# Altium schematic symbol library PMIC - LED Drivers.SchLib: 1 symbol
Pins are listed as number, name and electrical type; pins without a type are passive.

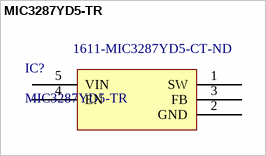
[diagram p0: symbol MIC3287YD5-TR]

## MIC3287YD5-TR
designator IC?  Supplier Part Number 1: 1611-MIC3287YD5-CT-ND
IC LED DRIVER RGLTR DIM TSOT23-5; Supplier 1: Digi-Key
footprint SOT95P245X145-5N (SOT23, 5-Leads, Body 2,90x2,45mm, Pitch 0,95mm, IPC Medium Density)
pins: 1 SW, 2 GND, 3 FB, 4 EN, 5 VIN